# EAGLE library part PAM8302A (library Ristretto)
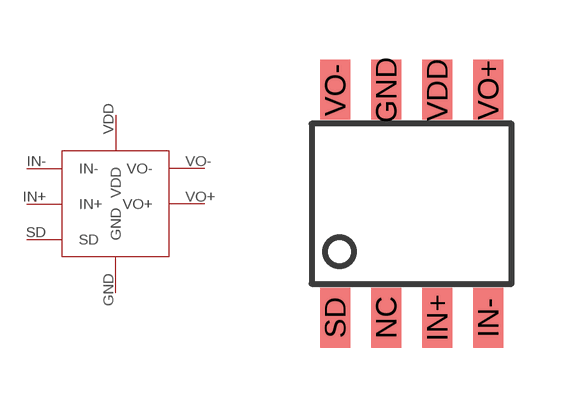
[diagram p4: symbol with the pads of PAM8302A-SOP8; footprint PAM8302A-SOP8]

Designator prefix -

## PAM8302A  [PAM8302A-SOP8]
GND  GND
IN+  IN+
IN-  IN-
SD  SD
VDD  VDD
VO+  VO+
VO-  VO-

## Footprint PAM8302A-SOP8 (pad centres in mm)
smd 0.75 x 1.5: GND -0.637,2.85; IN+ 0.637,-2.85; IN- 1.913,-2.85; NC -0.637,-2.85; SD -1.913,-2.85; VDD 0.637,2.85; VO+ 1.913,2.85; VO- -1.913,2.85